# Altium schematic symbol library kmilo17pet-dsPIC33F.SchLib: 775 symbols (part 13 of 44)
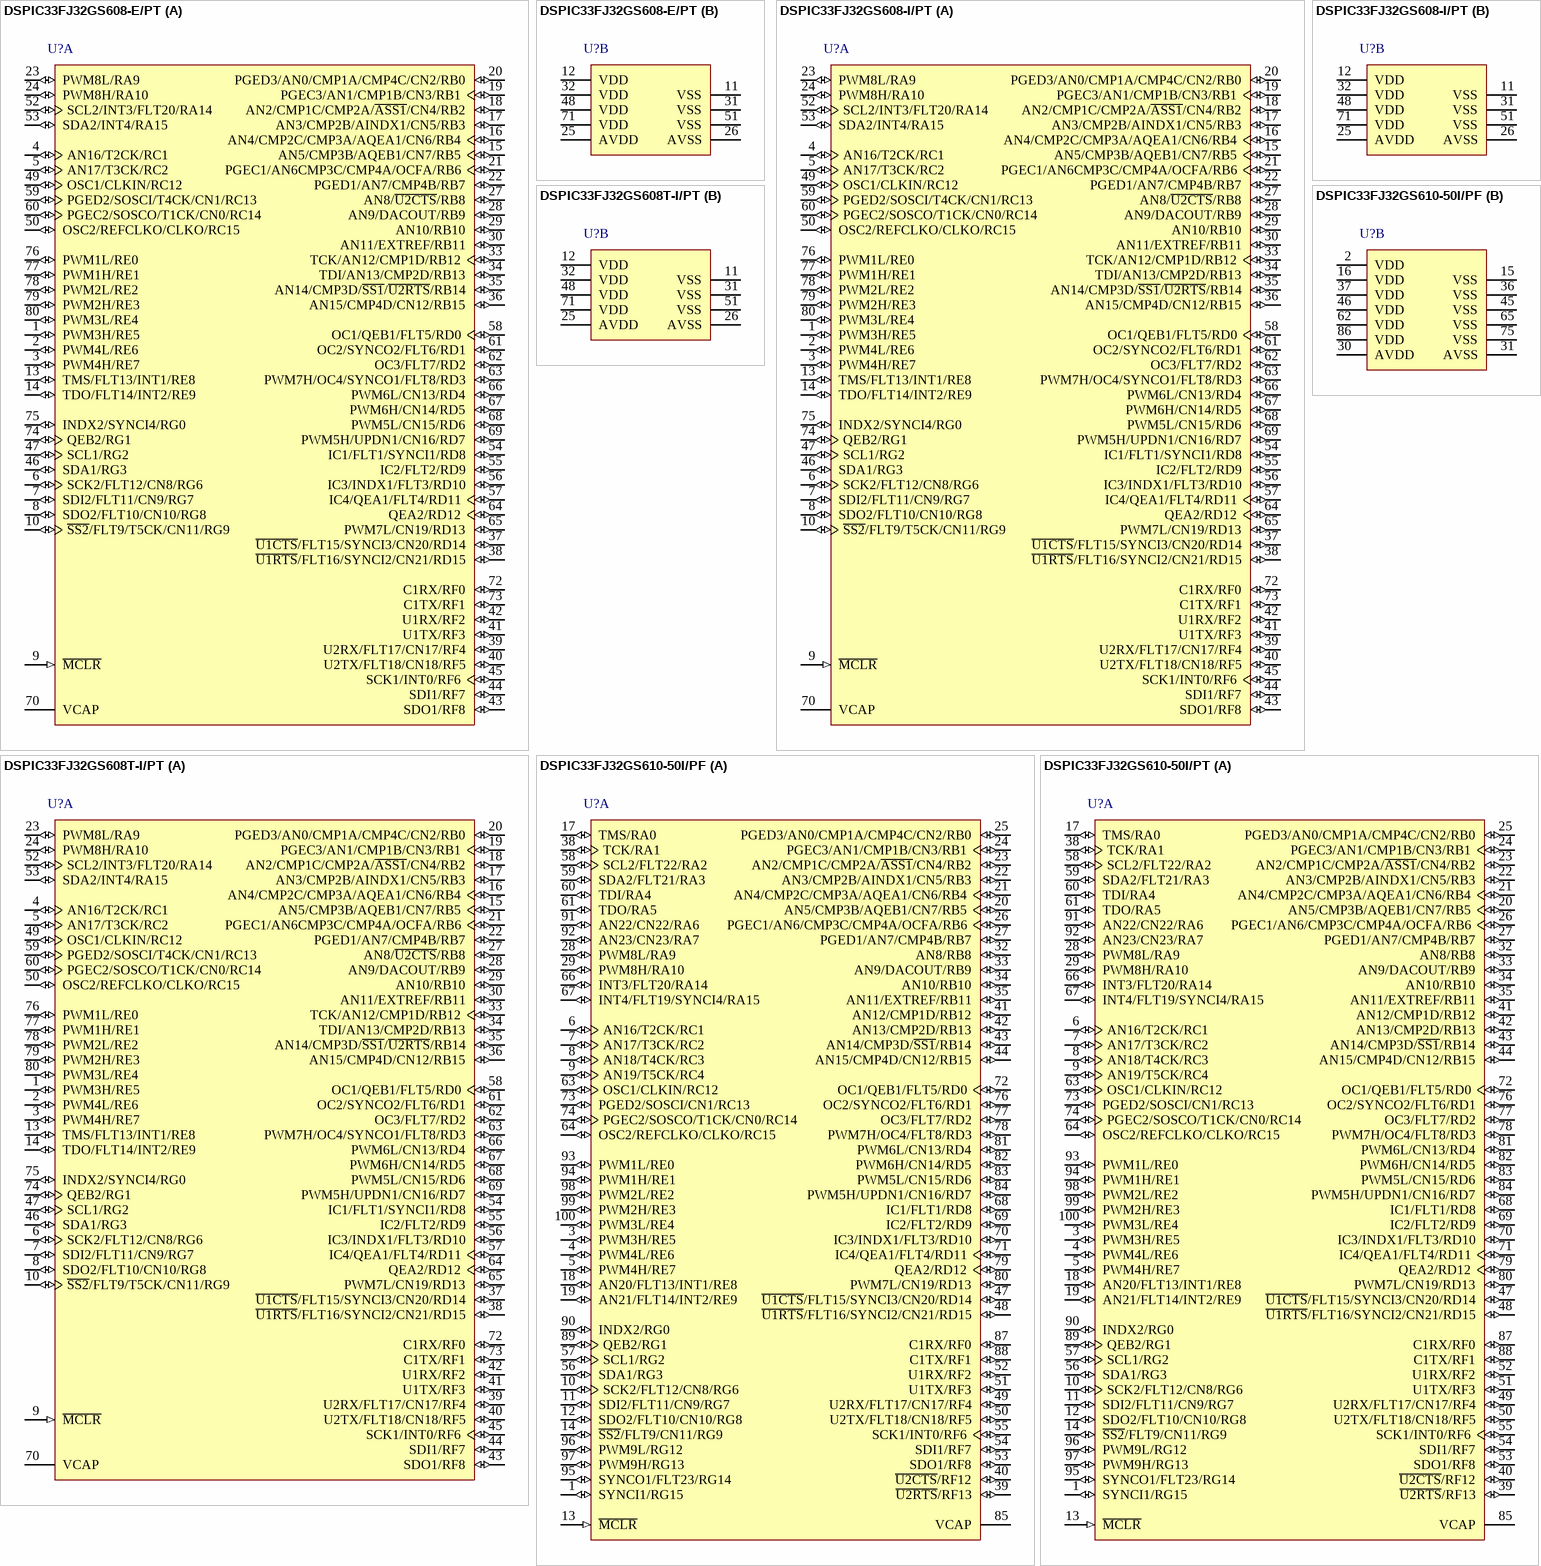
[diagram p170: symbols DSPIC33FJ32GS608-E/PT to DSPIC33FJ32GS610-50I/PT]

## DSPIC33FJ32GS608-I/PT
designator U?
16-Bit Digital Signal Controller with High-Speed PWM, ADC and Comparators, 50 MIPS, 69 I/O, GPIO, -40 to 85 degC, 80-pin TQFP (PT80), Tray; Manufacturer: Microchip; PartNumber: DSPIC33FJ32GS608-I/PT; DatasheetVersion: Rev. E; PackageVersion: C04-092B; PackageReference: TQFP-PT80; PackageDescription: 80-Lead Plastic Thin Quad FlatPack, 12 x 12 mm Body, 0.5 mm Pitch; Supplier 1: Digi-Key; Supplier Part Number 1: DSPIC33FJ32GS608-I/PT-ND; Supplier 2: Mouser; Supplier Part Number 2: 579-33FJ32GS608-I/PT; Mounting Technology: Surface Mount; ComponentLink1Description: Manufacturer URL; ComponentLink1URL: http://www.microchip.com; ComponentLink2Description: Datasheet; ComponentLink2URL: http://ww1.microchip.com/downloads/en/DeviceDoc/70591e.pdf; ComponentLink3Description: Package Specification; ComponentLink3URL: http://www.microchip.com/stellent/groups/techpub_sg/documents/packagingspec/en012702.pdf; ComponentLink4Description: Product URL; ComponentLink4URL: http://www.microchip.com/dsPIC33FJ32GS608
footprint MCHP-TQFP-PT80_N (QFN, 80-Leads, Body 12x12mm, Pitch 0.5mm, IPC Medium Density)
footprint MCHP-TQFP-PT80_L (QFN, 80-Leads, Body 12x12mm, Pitch 0.5mm, IPC High Density)
footprint MCHP-TQFP-PT80_M (QFN, 80-Leads, Body 12x12mm, Pitch 0.5mm, IPC Low Density)
part A pins: 1 PWM3H/RE5 (io), 2 PWM4L/RE6 (io), 3 PWM4H/RE7 (io), 4 AN16/T2CK/RC1 (io), 5 AN17/T3CK/RC2 (io), 6 SCK2/FLT12/CN8/RG6 (io), 7 SDI2/FLT11/CN9/RG7 (io), 8 SDO2/FLT10/CN10/RG8 (io), 9 ~{MCLR} (in) "Master Clear (Reset) input. This pin is an active-low Reset to the device.", 10 ~{SS2}/FLT9/T5CK/CN11/RG9 (io), 13 TMS/FLT13/INT1/RE8 (io), 14 TDO/FLT14/INT2/RE9 (io), 15 AN5/CMP3B/AQEB1/CN7/RB5 (io), 16 AN4/CMP2C/CMP3A/AQEA1/CN6/RB4 (io), 17 AN3/CMP2B/AINDX1/CN5/RB3 (io), 18 AN2/CMP1C/CMP2A/~{ASS1}/CN4/RB2 (io), 19 PGEC3/AN1/CMP1B/CN3/RB1 (io), 20 PGED3/AN0/CMP1A/CMP4C/CN2/RB0 (io), 21 PGEC1/AN6CMP3C/CMP4A/OCFA/RB6 (io), 22 PGED1/AN7/CMP4B/RB7 (io), 23 PWM8L/RA9 (io), 24 PWM8H/RA10 (io), 27 AN8/~{U2CTS}/RB8 (io), 28 AN9/DACOUT/RB9 (io), 29 AN10/RB10 (io), 30 AN11/EXTREF/RB11 (io), 33 TCK/AN12/CMP1D/RB12 (io), 34 TDI/AN13/CMP2D/RB13 (io), 35 AN14/CMP3D/~{SS1}/~{U2RTS}/RB14 (io), 36 AN15/CMP4D/CN12/RB15 (io), 37 ~{U1CTS}/FLT15/SYNCI3/CN20/RD14 (io), 38 ~{U1RTS}/FLT16/SYNCI2/CN21/RD15 (io), 39 U2RX/FLT17/CN17/RF4 (io), 40 U2TX/FLT18/CN18/RF5 (io), 41 U1TX/RF3 (io), 42 U1RX/RF2 (io), 43 SDO1/RF8 (io), 44 SDI1/RF7 (io), 45 SCK1/INT0/RF6 (io), 46 SDA1/RG3 (io), 47 SCL1/RG2 (io), 49 OSC1/CLKIN/RC12 (io), 50 OSC2/REFCLKO/CLKO/RC15 (io), 52 SCL2/INT3/FLT20/RA14 (io), 53 SDA2/INT4/RA15 (io), 54 IC1/FLT1/SYNCI1/RD8 (io), 55 IC2/FLT2/RD9 (io), 56 IC3/INDX1/FLT3/RD10 (io), 57 IC4/QEA1/FLT4/RD11 (io), 58 OC1/QEB1/FLT5/RD0 (io), 59 PGED2/SOSCI/T4CK/CN1/RC13 (io), 60 PGEC2/SOSCO/T1CK/CN0/RC14 (io), 61 OC2/SYNCO2/FLT6/RD1 (io), 62 OC3/FLT7/RD2 (io), 63 PWM7H/OC4/SYNCO1/FLT8/RD3 (io), 64 QEA2/RD12 (io), 65 PWM7L/CN19/RD13 (io), 66 PWM6L/CN13/RD4 (io), 67 PWM6H/CN14/RD5 (io), 68 PWM5L/CN15/RD6 (io), 69 PWM5H/UPDN1/CN16/RD7 (io), 70 VCAP "CPU logic filter capacitor connection.", 72 C1RX/RF0 (io), 73 C1TX/RF1 (io), 74 QEB2/RG1 (io), 75 INDX2/SYNCI4/RG0 (io), 76 PWM1L/RE0 (io), 77 PWM1H/RE1 (io), 78 PWM2L/RE2 (io), 79 PWM2H/RE3 (io), 80 PWM3L/RE4 (io)
part B pins: 11 VSS (power) "Ground reference for logic and I/O pins.", 12 VDD (power) "Positive supply for peripheral logic and I/O pins.", 25 AVDD (power) "Positive supply for analog modules. This pin must be connected at all times.", 26 AVSS (power) "Ground reference for analog modules.", 31 VSS (power) "Ground reference for logic and I/O pins.", 32 VDD (power) "Positive supply for peripheral logic and I/O pins.", 48 VDD (power) "Positive supply for peripheral logic and I/O pins.", 51 VSS (power) "Ground reference for logic and I/O pins.", 71 VDD (power) "Positive supply for peripheral logic and I/O pins."

## DSPIC33FJ32GS608T-I/PT
designator U?
16-Bit Digital Signal Controller with High-Speed PWM, ADC and Comparators, 50 MIPS, 69 I/O, GPIO, -40 to 85 degC, 80-pin TQFP (PT80), Tape and Reel; Manufacturer: Microchip; PartNumber: DSPIC33FJ32GS608T-I/PT; DatasheetVersion: Rev. E; PackageVersion: C04-092B; PackageReference: TQFP-PT80; PackageDescription: 80-Lead Plastic Thin Quad FlatPack, 12 x 12 mm Body, 0.5 mm Pitch; Supplier 1: Digi-Key; Supplier Part Number 1: DSPIC33FJ32GS608T-I/PT-ND; Supplier 2: Mouser; Supplier Part Number 2: 579-33FJ32GS608TI/PT; Mounting Technology: Surface Mount; ComponentLink1Description: Manufacturer URL; ComponentLink1URL: http://www.microchip.com; ComponentLink2Description: Datasheet; ComponentLink2URL: http://ww1.microchip.com/downloads/en/DeviceDoc/70591e.pdf; ComponentLink3Description: Package Specification; ComponentLink3URL: http://www.microchip.com/stellent/groups/techpub_sg/documents/packagingspec/en012702.pdf; ComponentLink4Description: Product URL; ComponentLink4URL: http://www.microchip.com/dsPIC33FJ32GS608
footprint MCHP-TQFP-PT80_N (QFN, 80-Leads, Body 12x12mm, Pitch 0.5mm, IPC Medium Density)
footprint MCHP-TQFP-PT80_L (QFN, 80-Leads, Body 12x12mm, Pitch 0.5mm, IPC High Density)
footprint MCHP-TQFP-PT80_M (QFN, 80-Leads, Body 12x12mm, Pitch 0.5mm, IPC Low Density)
part A pins: 1 PWM3H/RE5 (io), 2 PWM4L/RE6 (io), 3 PWM4H/RE7 (io), 4 AN16/T2CK/RC1 (io), 5 AN17/T3CK/RC2 (io), 6 SCK2/FLT12/CN8/RG6 (io), 7 SDI2/FLT11/CN9/RG7 (io), 8 SDO2/FLT10/CN10/RG8 (io), 9 ~{MCLR} (in) "Master Clear (Reset) input. This pin is an active-low Reset to the device.", 10 ~{SS2}/FLT9/T5CK/CN11/RG9 (io), 13 TMS/FLT13/INT1/RE8 (io), 14 TDO/FLT14/INT2/RE9 (io), 15 AN5/CMP3B/AQEB1/CN7/RB5 (io), 16 AN4/CMP2C/CMP3A/AQEA1/CN6/RB4 (io), 17 AN3/CMP2B/AINDX1/CN5/RB3 (io), 18 AN2/CMP1C/CMP2A/~{ASS1}/CN4/RB2 (io), 19 PGEC3/AN1/CMP1B/CN3/RB1 (io), 20 PGED3/AN0/CMP1A/CMP4C/CN2/RB0 (io), 21 PGEC1/AN6CMP3C/CMP4A/OCFA/RB6 (io), 22 PGED1/AN7/CMP4B/RB7 (io), 23 PWM8L/RA9 (io), 24 PWM8H/RA10 (io), 27 AN8/~{U2CTS}/RB8 (io), 28 AN9/DACOUT/RB9 (io), 29 AN10/RB10 (io), 30 AN11/EXTREF/RB11 (io), 33 TCK/AN12/CMP1D/RB12 (io), 34 TDI/AN13/CMP2D/RB13 (io), 35 AN14/CMP3D/~{SS1}/~{U2RTS}/RB14 (io), 36 AN15/CMP4D/CN12/RB15 (io), 37 ~{U1CTS}/FLT15/SYNCI3/CN20/RD14 (io), 38 ~{U1RTS}/FLT16/SYNCI2/CN21/RD15 (io), 39 U2RX/FLT17/CN17/RF4 (io), 40 U2TX/FLT18/CN18/RF5 (io), 41 U1TX/RF3 (io), 42 U1RX/RF2 (io), 43 SDO1/RF8 (io), 44 SDI1/RF7 (io), 45 SCK1/INT0/RF6 (io), 46 SDA1/RG3 (io), 47 SCL1/RG2 (io), 49 OSC1/CLKIN/RC12 (io), 50 OSC2/REFCLKO/CLKO/RC15 (io), 52 SCL2/INT3/FLT20/RA14 (io), 53 SDA2/INT4/RA15 (io), 54 IC1/FLT1/SYNCI1/RD8 (io), 55 IC2/FLT2/RD9 (io), 56 IC3/INDX1/FLT3/RD10 (io), 57 IC4/QEA1/FLT4/RD11 (io), 58 OC1/QEB1/FLT5/RD0 (io), 59 PGED2/SOSCI/T4CK/CN1/RC13 (io), 60 PGEC2/SOSCO/T1CK/CN0/RC14 (io), 61 OC2/SYNCO2/FLT6/RD1 (io), 62 OC3/FLT7/RD2 (io), 63 PWM7H/OC4/SYNCO1/FLT8/RD3 (io), 64 QEA2/RD12 (io), 65 PWM7L/CN19/RD13 (io), 66 PWM6L/CN13/RD4 (io), 67 PWM6H/CN14/RD5 (io), 68 PWM5L/CN15/RD6 (io), 69 PWM5H/UPDN1/CN16/RD7 (io), 70 VCAP "CPU logic filter capacitor connection.", 72 C1RX/RF0 (io), 73 C1TX/RF1 (io), 74 QEB2/RG1 (io), 75 INDX2/SYNCI4/RG0 (io), 76 PWM1L/RE0 (io), 77 PWM1H/RE1 (io), 78 PWM2L/RE2 (io), 79 PWM2H/RE3 (io), 80 PWM3L/RE4 (io)
part B pins: 11 VSS (power) "Ground reference for logic and I/O pins.", 12 VDD (power) "Positive supply for peripheral logic and I/O pins.", 25 AVDD (power) "Positive supply for analog modules. This pin must be connected at all times.", 26 AVSS (power) "Ground reference for analog modules.", 31 VSS (power) "Ground reference for logic and I/O pins.", 32 VDD (power) "Positive supply for peripheral logic and I/O pins.", 48 VDD (power) "Positive supply for peripheral logic and I/O pins.", 51 VSS (power) "Ground reference for logic and I/O pins.", 71 VDD (power) "Positive supply for peripheral logic and I/O pins."

## DSPIC33FJ32GS610-50I/PF
designator U?
16-Bit Digital Signal Controller with High-Speed PWM, ADC and Comparators, 50 MIPS, 85 I/O, GPIO, -40 to 85 degC, 100-pin TQFP (PF100), Tray; Manufacturer: Microchip; PartNumber: DSPIC33FJ32GS610-50I/PF; DatasheetVersion: Rev. E; PackageVersion: C04-110B; PackageReference: TQFP-PF100; PackageDescription: 100-Lead Thin Plastic Quad Flat Pack, 14 x 14 mm Body, 0.5 mm Pitch; Supplier 1: Digi-Key; Supplier Part Number 1: DSPIC33FJ32GS610-50I/PF-ND; Supplier 2: Mouser; Supplier Part Number 2: 579-33F32GS61050IPF; Mounting Technology: Surface Mount; ComponentLink1Description: Manufacturer URL; ComponentLink1URL: http://www.microchip.com; ComponentLink2Description: Datasheet; ComponentLink2URL: http://ww1.microchip.com/downloads/en/DeviceDoc/70591e.pdf; ComponentLink3Description: Package Specification; ComponentLink3URL: http://www.microchip.com/stellent/groups/techpub_sg/documents/packagingspec/en012702.pdf; ComponentLink4Description: Product URL; ComponentLink4URL: http://www.microchip.com/dsPIC33FJ32GS610
footprint MCHP-TQFP-PF100_N (QFP, 100-Leads, Body 14x14mm, Pitch 0.5mm, IPC Medium Density)
footprint MCHP-TQFP-PF100_L (QFP, 100-Leads, Body 14x14mm, Pitch 0.5mm, IPC High Density)
footprint MCHP-TQFP-PF100_M (QFP, 100-Leads, Body 14x14mm, Pitch 0.5mm, IPC Low Density)
part A pins: 1 SYNCI1/RG15 (io), 3 PWM3H/RE5 (io), 4 PWM4L/RE6 (io), 5 PWM4H/RE7 (io), 6 AN16/T2CK/RC1 (io), 7 AN17/T3CK/RC2 (io), 8 AN18/T4CK/RC3 (io), 9 AN19/T5CK/RC4 (io), 10 SCK2/FLT12/CN8/RG6 (io), 11 SDI2/FLT11/CN9/RG7 (io), 12 SDO2/FLT10/CN10/RG8 (io), 13 ~{MCLR} (in) "Master Clear (Reset) input. This pin is an active-low Reset to the device.", 14 ~{SS2}/FLT9/CN11/RG9 (io), 17 TMS/RA0 (io), 18 AN20/FLT13/INT1/RE8 (io), 19 AN21/FLT14/INT2/RE9 (io), 20 AN5/CMP3B/AQEB1/CN7/RB5 (io), 21 AN4/CMP2C/CMP3A/AQEA1/CN6/RB4 (io), 22 AN3/CMP2B/AINDX1/CN5/RB3 (io), 23 AN2/CMP1C/CMP2A/~{ASS1}/CN4/RB2 (io), 24 PGEC3/AN1/CMP1B/CN3/RB1 (io), 25 PGED3/AN0/CMP1A/CMP4C/CN2/RB0 (io), 26 PGEC1/AN6/CMP3C/CMP4A/OCFA/RB6 (io), 27 PGED1/AN7/CMP4B/RB7 (io), 28 PWM8L/RA9 (io), 29 PWM8H/RA10 (io), 32 AN8/RB8 (io), 33 AN9/DACOUT/RB9 (io), 34 AN10/RB10 (io), 35 AN11/EXTREF/RB11 (io), 38 TCK/RA1 (io), 39 ~{U2RTS}/RF13 (io), 40 ~{U2CTS}/RF12 (io), 41 AN12/CMP1D/RB12 (io), 42 AN13/CMP2D/RB13 (io), 43 AN14/CMP3D/~{SS1}/RB14 (io), 44 AN15/CMP4D/CN12/RB15 (io), 47 ~{U1CTS}/FLT15/SYNCI3/CN20/RD14 (io), 48 ~{U1RTS}/FLT16/SYNCI2/CN21/RD15 (io), 49 U2RX/FLT17/CN17/RF4 (io), 50 U2TX/FLT18/CN18/RF5 (io), 51 U1TX/RF3 (io), 52 U1RX/RF2 (io), 53 SDO1/RF8 (io), 54 SDI1/RF7 (io), 55 SCK1/INT0/RF6 (io), 56 SDA1/RG3 (io), 57 SCL1/RG2 (io), 58 SCL2/FLT22/RA2 (io), 59 SDA2/FLT21/RA3 (io), 60 TDI/RA4 (io), 61 TDO/RA5 (io), 63 OSC1/CLKIN/RC12 (io), 64 OSC2/REFCLKO/CLKO/RC15 (io), 66 INT3/FLT20/RA14 (io), 67 INT4/FLT19/SYNCI4/RA15 (io), 68 IC1/FLT1/RD8 (io), 69 IC2/FLT2/RD9 (io), 70 IC3/INDX1/FLT3/RD10 (io), 71 IC4/QEA1/FLT4/RD11 (io), 72 OC1/QEB1/FLT5/RD0 (io), 73 PGED2/SOSCI/CN1/RC13 (io), 74 PGEC2/SOSCO/T1CK/CN0/RC14 (io), 76 OC2/SYNCO2/FLT6/RD1 (io), 77 OC3/FLT7/RD2 (io), 78 PWM7H/OC4/FLT8/RD3 (io), 79 QEA2/RD12 (io), 80 PWM7L/CN19/RD13 (io), 81 PWM6L/CN13/RD4 (io), 82 PWM6H/CN14/RD5 (io), 83 PWM5L/CN15/RD6 (io), 84 PWM5H/UPDN1/CN16/RD7 (io), 85 VCAP "CPU logic filter capacitor connection.", 87 C1RX/RF0 (io), 88 C1TX/RF1 (io), 89 QEB2/RG1 (io), 90 INDX2/RG0 (io), 91 AN22/CN22/RA6 (io), 92 AN23/CN23/RA7 (io), 93 PWM1L/RE0 (io), 94 PWM1H/RE1 (io), 95 SYNCO1/FLT23/RG14 (io), 96 PWM9L/RG12 (io), 97 PWM9H/RG13 (io), 98 PWM2L/RE2 (io), 99 PWM2H/RE3 (io), 100 PWM3L/RE4 (io)
part B pins: 2 VDD (power) "Positive supply for peripheral logic and I/O pins.", 15 VSS (power) "Ground reference for logic and I/O pins.", 16 VDD (power) "Positive supply for peripheral logic and I/O pins.", 30 AVDD (power) "Positive supply for analog modules. This pin must be connected at all times.", 31 AVSS "Ground reference for analog modules.", 36 VSS "Ground reference for logic and I/O pins.", 37 VDD (power) "Positive supply for peripheral logic and I/O pins.", 45 VSS "Ground reference for logic and I/O pins.", 46 VDD (power) "Positive supply for peripheral logic and I/O pins.", 62 VDD (power) "Positive supply for peripheral logic and I/O pins.", 65 VSS "Ground reference for logic and I/O pins.", 75 VSS "Ground reference for logic and I/O pins.", 86 VDD (power) "Positive supply for peripheral logic and I/O pins."

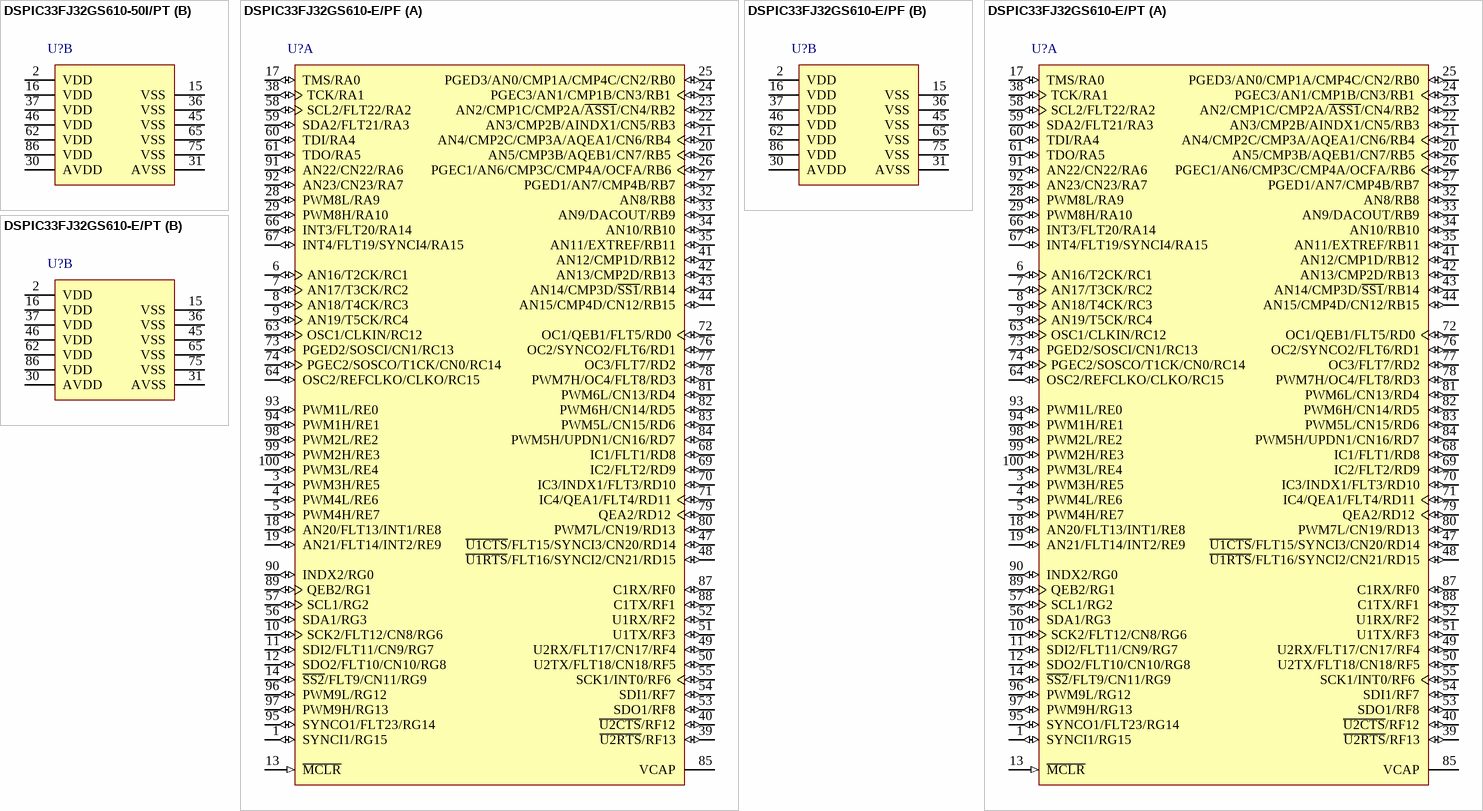
[diagram p36: symbols DSPIC33FJ32GS610-50I/PT to DSPIC33FJ32GS610-E/PT]

## DSPIC33FJ32GS610-50I/PT
designator U?
16-Bit Digital Signal Controller with High-Speed PWM, ADC and Comparators, 50 MIPS, 85 I/O, GPIO, -40 to 85 degC, 100-pin TQFP (PT100), Tray; Manufacturer: Microchip; PartNumber: DSPIC33FJ32GS610-50I/PT; DatasheetVersion: Rev. E; PackageVersion: C04-100B; PackageReference: TQFP-PT100; PackageDescription: 100-Lead Plastic Thin Quad Flatpack, 12 x 12 mm Body, 0.4 mm Pitch; Supplier 1: Digi-Key; Supplier Part Number 1: DSPIC33FJ32GS610-50I/PT-ND; Supplier 2: Mouser; Supplier Part Number 2: 579-33F32GS61050IPT; Mounting Technology: Surface Mount; ComponentLink1Description: Manufacturer URL; ComponentLink1URL: http://www.microchip.com; ComponentLink2Description: Datasheet; ComponentLink2URL: http://ww1.microchip.com/downloads/en/DeviceDoc/70591e.pdf; ComponentLink3Description: Package Specification; ComponentLink3URL: http://www.microchip.com/stellent/groups/techpub_sg/documents/packagingspec/en012702.pdf; ComponentLink4Description: Product URL; ComponentLink4URL: http://www.microchip.com/dsPIC33FJ32GS610
footprint MCHP-TQFP-PT100_N (QFP, 100-Leads, Body 12x12mm, Pitch 0.4mm, IPC Medium Density)
footprint MCHP-TQFP-PT100_L (QFP, 100-Leads, Body 12x12mm, Pitch 0.4mm, IPC High Density)
footprint MCHP-TQFP-PT100_M (TQFP, 100-Leads, Body 12x12mm, Pitch 0.4mm, IPC Low Density)
part A pins: 1 SYNCI1/RG15 (io), 3 PWM3H/RE5 (io), 4 PWM4L/RE6 (io), 5 PWM4H/RE7 (io), 6 AN16/T2CK/RC1 (io), 7 AN17/T3CK/RC2 (io), 8 AN18/T4CK/RC3 (io), 9 AN19/T5CK/RC4 (io), 10 SCK2/FLT12/CN8/RG6 (io), 11 SDI2/FLT11/CN9/RG7 (io), 12 SDO2/FLT10/CN10/RG8 (io), 13 ~{MCLR} (in) "Master Clear (Reset) input. This pin is an active-low Reset to the device.", 14 ~{SS2}/FLT9/CN11/RG9 (io), 17 TMS/RA0 (io), 18 AN20/FLT13/INT1/RE8 (io), 19 AN21/FLT14/INT2/RE9 (io), 20 AN5/CMP3B/AQEB1/CN7/RB5 (io), 21 AN4/CMP2C/CMP3A/AQEA1/CN6/RB4 (io), 22 AN3/CMP2B/AINDX1/CN5/RB3 (io), 23 AN2/CMP1C/CMP2A/~{ASS1}/CN4/RB2 (io), 24 PGEC3/AN1/CMP1B/CN3/RB1 (io), 25 PGED3/AN0/CMP1A/CMP4C/CN2/RB0 (io), 26 PGEC1/AN6/CMP3C/CMP4A/OCFA/RB6 (io), 27 PGED1/AN7/CMP4B/RB7 (io), 28 PWM8L/RA9 (io), 29 PWM8H/RA10 (io), 32 AN8/RB8 (io), 33 AN9/DACOUT/RB9 (io), 34 AN10/RB10 (io), 35 AN11/EXTREF/RB11 (io), 38 TCK/RA1 (io), 39 ~{U2RTS}/RF13 (io), 40 ~{U2CTS}/RF12 (io), 41 AN12/CMP1D/RB12 (io), 42 AN13/CMP2D/RB13 (io), 43 AN14/CMP3D/~{SS1}/RB14 (io), 44 AN15/CMP4D/CN12/RB15 (io), 47 ~{U1CTS}/FLT15/SYNCI3/CN20/RD14 (io), 48 ~{U1RTS}/FLT16/SYNCI2/CN21/RD15 (io), 49 U2RX/FLT17/CN17/RF4 (io), 50 U2TX/FLT18/CN18/RF5 (io), 51 U1TX/RF3 (io), 52 U1RX/RF2 (io), 53 SDO1/RF8 (io), 54 SDI1/RF7 (io), 55 SCK1/INT0/RF6 (io), 56 SDA1/RG3 (io), 57 SCL1/RG2 (io), 58 SCL2/FLT22/RA2 (io), 59 SDA2/FLT21/RA3 (io), 60 TDI/RA4 (io), 61 TDO/RA5 (io), 63 OSC1/CLKIN/RC12 (io), 64 OSC2/REFCLKO/CLKO/RC15 (io), 66 INT3/FLT20/RA14 (io), 67 INT4/FLT19/SYNCI4/RA15 (io), 68 IC1/FLT1/RD8 (io), 69 IC2/FLT2/RD9 (io), 70 IC3/INDX1/FLT3/RD10 (io), 71 IC4/QEA1/FLT4/RD11 (io), 72 OC1/QEB1/FLT5/RD0 (io), 73 PGED2/SOSCI/CN1/RC13 (io), 74 PGEC2/SOSCO/T1CK/CN0/RC14 (io), 76 OC2/SYNCO2/FLT6/RD1 (io), 77 OC3/FLT7/RD2 (io), 78 PWM7H/OC4/FLT8/RD3 (io), 79 QEA2/RD12 (io), 80 PWM7L/CN19/RD13 (io), 81 PWM6L/CN13/RD4 (io), 82 PWM6H/CN14/RD5 (io), 83 PWM5L/CN15/RD6 (io), 84 PWM5H/UPDN1/CN16/RD7 (io), 85 VCAP "CPU logic filter capacitor connection.", 87 C1RX/RF0 (io), 88 C1TX/RF1 (io), 89 QEB2/RG1 (io), 90 INDX2/RG0 (io), 91 AN22/CN22/RA6 (io), 92 AN23/CN23/RA7 (io), 93 PWM1L/RE0 (io), 94 PWM1H/RE1 (io), 95 SYNCO1/FLT23/RG14 (io), 96 PWM9L/RG12 (io), 97 PWM9H/RG13 (io), 98 PWM2L/RE2 (io), 99 PWM2H/RE3 (io), 100 PWM3L/RE4 (io)
part B pins: 2 VDD (power) "Positive supply for peripheral logic and I/O pins.", 15 VSS (power) "Ground reference for logic and I/O pins.", 16 VDD (power) "Positive supply for peripheral logic and I/O pins.", 30 AVDD (power) "Positive supply for analog modules. This pin must be connected at all times.", 31 AVSS "Ground reference for analog modules.", 36 VSS "Ground reference for logic and I/O pins.", 37 VDD (power) "Positive supply for peripheral logic and I/O pins.", 45 VSS "Ground reference for logic and I/O pins.", 46 VDD (power) "Positive supply for peripheral logic and I/O pins.", 62 VDD (power) "Positive supply for peripheral logic and I/O pins.", 65 VSS "Ground reference for logic and I/O pins.", 75 VSS "Ground reference for logic and I/O pins.", 86 VDD (power) "Positive supply for peripheral logic and I/O pins."

## DSPIC33FJ32GS610-E/PF
designator U?
16-Bit Digital Signal Controller with High-Speed PWM, ADC and Comparators, 50 MIPS, 85 I/O, GPIO, -40 to 125 degC, 100-pin TQFP (PF100), Tray; Manufacturer: Microchip; PartNumber: DSPIC33FJ32GS610-E/PF; DatasheetVersion: Rev. E; PackageVersion: C04-110B; PackageReference: TQFP-PF100; PackageDescription: 100-Lead Thin Plastic Quad Flat Pack, 14 x 14 mm Body, 0.5 mm Pitch; Supplier 1: Digi-Key; Supplier Part Number 1: DSPIC33FJ32GS610-E/PF-ND; Supplier 2: Mouser; Supplier Part Number 2: 579-33FJ32GS610-E/PF; Mounting Technology: Surface Mount; ComponentLink1Description: Manufacturer URL; ComponentLink1URL: http://www.microchip.com; ComponentLink2Description: Datasheet; ComponentLink2URL: http://ww1.microchip.com/downloads/en/DeviceDoc/70591e.pdf; ComponentLink3Description: Package Specification; ComponentLink3URL: http://www.microchip.com/stellent/groups/techpub_sg/documents/packagingspec/en012702.pdf; ComponentLink4Description: Product URL; ComponentLink4URL: http://www.microchip.com/dsPIC33FJ32GS610
footprint MCHP-TQFP-PF100_N (QFP, 100-Leads, Body 14x14mm, Pitch 0.5mm, IPC Medium Density)
footprint MCHP-TQFP-PF100_L (QFP, 100-Leads, Body 14x14mm, Pitch 0.5mm, IPC High Density)
footprint MCHP-TQFP-PF100_M (QFP, 100-Leads, Body 14x14mm, Pitch 0.5mm, IPC Low Density)
part A pins: 1 SYNCI1/RG15 (io), 3 PWM3H/RE5 (io), 4 PWM4L/RE6 (io), 5 PWM4H/RE7 (io), 6 AN16/T2CK/RC1 (io), 7 AN17/T3CK/RC2 (io), 8 AN18/T4CK/RC3 (io), 9 AN19/T5CK/RC4 (io), 10 SCK2/FLT12/CN8/RG6 (io), 11 SDI2/FLT11/CN9/RG7 (io), 12 SDO2/FLT10/CN10/RG8 (io), 13 ~{MCLR} (in) "Master Clear (Reset) input. This pin is an active-low Reset to the device.", 14 ~{SS2}/FLT9/CN11/RG9 (io), 17 TMS/RA0 (io), 18 AN20/FLT13/INT1/RE8 (io), 19 AN21/FLT14/INT2/RE9 (io), 20 AN5/CMP3B/AQEB1/CN7/RB5 (io), 21 AN4/CMP2C/CMP3A/AQEA1/CN6/RB4 (io), 22 AN3/CMP2B/AINDX1/CN5/RB3 (io), 23 AN2/CMP1C/CMP2A/~{ASS1}/CN4/RB2 (io), 24 PGEC3/AN1/CMP1B/CN3/RB1 (io), 25 PGED3/AN0/CMP1A/CMP4C/CN2/RB0 (io), 26 PGEC1/AN6/CMP3C/CMP4A/OCFA/RB6 (io), 27 PGED1/AN7/CMP4B/RB7 (io), 28 PWM8L/RA9 (io), 29 PWM8H/RA10 (io), 32 AN8/RB8 (io), 33 AN9/DACOUT/RB9 (io), 34 AN10/RB10 (io), 35 AN11/EXTREF/RB11 (io), 38 TCK/RA1 (io), 39 ~{U2RTS}/RF13 (io), 40 ~{U2CTS}/RF12 (io), 41 AN12/CMP1D/RB12 (io), 42 AN13/CMP2D/RB13 (io), 43 AN14/CMP3D/~{SS1}/RB14 (io), 44 AN15/CMP4D/CN12/RB15 (io), 47 ~{U1CTS}/FLT15/SYNCI3/CN20/RD14 (io), 48 ~{U1RTS}/FLT16/SYNCI2/CN21/RD15 (io), 49 U2RX/FLT17/CN17/RF4 (io), 50 U2TX/FLT18/CN18/RF5 (io), 51 U1TX/RF3 (io), 52 U1RX/RF2 (io), 53 SDO1/RF8 (io), 54 SDI1/RF7 (io), 55 SCK1/INT0/RF6 (io), 56 SDA1/RG3 (io), 57 SCL1/RG2 (io), 58 SCL2/FLT22/RA2 (io), 59 SDA2/FLT21/RA3 (io), 60 TDI/RA4 (io), 61 TDO/RA5 (io), 63 OSC1/CLKIN/RC12 (io), 64 OSC2/REFCLKO/CLKO/RC15 (io), 66 INT3/FLT20/RA14 (io), 67 INT4/FLT19/SYNCI4/RA15 (io), 68 IC1/FLT1/RD8 (io), 69 IC2/FLT2/RD9 (io), 70 IC3/INDX1/FLT3/RD10 (io), 71 IC4/QEA1/FLT4/RD11 (io), 72 OC1/QEB1/FLT5/RD0 (io), 73 PGED2/SOSCI/CN1/RC13 (io), 74 PGEC2/SOSCO/T1CK/CN0/RC14 (io), 76 OC2/SYNCO2/FLT6/RD1 (io), 77 OC3/FLT7/RD2 (io), 78 PWM7H/OC4/FLT8/RD3 (io), 79 QEA2/RD12 (io), 80 PWM7L/CN19/RD13 (io), 81 PWM6L/CN13/RD4 (io), 82 PWM6H/CN14/RD5 (io), 83 PWM5L/CN15/RD6 (io), 84 PWM5H/UPDN1/CN16/RD7 (io), 85 VCAP "CPU logic filter capacitor connection.", 87 C1RX/RF0 (io), 88 C1TX/RF1 (io), 89 QEB2/RG1 (io), 90 INDX2/RG0 (io), 91 AN22/CN22/RA6 (io), 92 AN23/CN23/RA7 (io), 93 PWM1L/RE0 (io), 94 PWM1H/RE1 (io), 95 SYNCO1/FLT23/RG14 (io), 96 PWM9L/RG12 (io), 97 PWM9H/RG13 (io), 98 PWM2L/RE2 (io), 99 PWM2H/RE3 (io), 100 PWM3L/RE4 (io)
part B pins: 2 VDD (power) "Positive supply for peripheral logic and I/O pins.", 15 VSS (power) "Ground reference for logic and I/O pins.", 16 VDD (power) "Positive supply for peripheral logic and I/O pins.", 30 AVDD (power) "Positive supply for analog modules. This pin must be connected at all times.", 31 AVSS "Ground reference for analog modules.", 36 VSS "Ground reference for logic and I/O pins.", 37 VDD (power) "Positive supply for peripheral logic and I/O pins.", 45 VSS "Ground reference for logic and I/O pins.", 46 VDD (power) "Positive supply for peripheral logic and I/O pins.", 62 VDD (power) "Positive supply for peripheral logic and I/O pins.", 65 VSS "Ground reference for logic and I/O pins.", 75 VSS "Ground reference for logic and I/O pins.", 86 VDD (power) "Positive supply for peripheral logic and I/O pins."

## DSPIC33FJ32GS610-E/PT
designator U?
16-Bit Digital Signal Controller with High-Speed PWM, ADC and Comparators, 50 MIPS, 85 I/O, GPIO, -40 to 125 degC, 100-pin TQFP (PT100), Tray; Manufacturer: Microchip; PartNumber: DSPIC33FJ32GS610-E/PT; DatasheetVersion: Rev. E; PackageVersion: C04-100B; PackageReference: TQFP-PT100; PackageDescription: 100-Lead Plastic Thin Quad Flatpack, 12 x 12 mm Body, 0.4 mm Pitch; Supplier 1: Digi-Key; Supplier Part Number 1: DSPIC33FJ32GS610-E/PT-ND; Supplier 2: Mouser; Supplier Part Number 2: 579-33FJ32GS610-E/PT; Mounting Technology: Surface Mount; ComponentLink1Description: Manufacturer URL; ComponentLink1URL: http://www.microchip.com; ComponentLink2Description: Datasheet; ComponentLink2URL: http://ww1.microchip.com/downloads/en/DeviceDoc/70591e.pdf; ComponentLink3Description: Package Specification; ComponentLink3URL: http://www.microchip.com/stellent/groups/techpub_sg/documents/packagingspec/en012702.pdf; ComponentLink4Description: Product URL; ComponentLink4URL: http://www.microchip.com/dsPIC33FJ32GS610
footprint MCHP-TQFP-PT100_N (QFP, 100-Leads, Body 12x12mm, Pitch 0.4mm, IPC Medium Density)
footprint MCHP-TQFP-PT100_L (QFP, 100-Leads, Body 12x12mm, Pitch 0.4mm, IPC High Density)
footprint MCHP-TQFP-PT100_M (TQFP, 100-Leads, Body 12x12mm, Pitch 0.4mm, IPC Low Density)
part A pins: 1 SYNCI1/RG15 (io), 3 PWM3H/RE5 (io), 4 PWM4L/RE6 (io), 5 PWM4H/RE7 (io), 6 AN16/T2CK/RC1 (io), 7 AN17/T3CK/RC2 (io), 8 AN18/T4CK/RC3 (io), 9 AN19/T5CK/RC4 (io), 10 SCK2/FLT12/CN8/RG6 (io), 11 SDI2/FLT11/CN9/RG7 (io), 12 SDO2/FLT10/CN10/RG8 (io), 13 ~{MCLR} (in) "Master Clear (Reset) input. This pin is an active-low Reset to the device.", 14 ~{SS2}/FLT9/CN11/RG9 (io), 17 TMS/RA0 (io), 18 AN20/FLT13/INT1/RE8 (io), 19 AN21/FLT14/INT2/RE9 (io), 20 AN5/CMP3B/AQEB1/CN7/RB5 (io), 21 AN4/CMP2C/CMP3A/AQEA1/CN6/RB4 (io), 22 AN3/CMP2B/AINDX1/CN5/RB3 (io), 23 AN2/CMP1C/CMP2A/~{ASS1}/CN4/RB2 (io), 24 PGEC3/AN1/CMP1B/CN3/RB1 (io), 25 PGED3/AN0/CMP1A/CMP4C/CN2/RB0 (io), 26 PGEC1/AN6/CMP3C/CMP4A/OCFA/RB6 (io), 27 PGED1/AN7/CMP4B/RB7 (io), 28 PWM8L/RA9 (io), 29 PWM8H/RA10 (io), 32 AN8/RB8 (io), 33 AN9/DACOUT/RB9 (io), 34 AN10/RB10 (io), 35 AN11/EXTREF/RB11 (io), 38 TCK/RA1 (io), 39 ~{U2RTS}/RF13 (io), 40 ~{U2CTS}/RF12 (io), 41 AN12/CMP1D/RB12 (io), 42 AN13/CMP2D/RB13 (io), 43 AN14/CMP3D/~{SS1}/RB14 (io), 44 AN15/CMP4D/CN12/RB15 (io), 47 ~{U1CTS}/FLT15/SYNCI3/CN20/RD14 (io), 48 ~{U1RTS}/FLT16/SYNCI2/CN21/RD15 (io), 49 U2RX/FLT17/CN17/RF4 (io), 50 U2TX/FLT18/CN18/RF5 (io), 51 U1TX/RF3 (io), 52 U1RX/RF2 (io), 53 SDO1/RF8 (io), 54 SDI1/RF7 (io), 55 SCK1/INT0/RF6 (io), 56 SDA1/RG3 (io), 57 SCL1/RG2 (io), 58 SCL2/FLT22/RA2 (io), 59 SDA2/FLT21/RA3 (io), 60 TDI/RA4 (io), 61 TDO/RA5 (io), 63 OSC1/CLKIN/RC12 (io), 64 OSC2/REFCLKO/CLKO/RC15 (io), 66 INT3/FLT20/RA14 (io), 67 INT4/FLT19/SYNCI4/RA15 (io), 68 IC1/FLT1/RD8 (io), 69 IC2/FLT2/RD9 (io), 70 IC3/INDX1/FLT3/RD10 (io), 71 IC4/QEA1/FLT4/RD11 (io), 72 OC1/QEB1/FLT5/RD0 (io), 73 PGED2/SOSCI/CN1/RC13 (io), 74 PGEC2/SOSCO/T1CK/CN0/RC14 (io), 76 OC2/SYNCO2/FLT6/RD1 (io), 77 OC3/FLT7/RD2 (io), 78 PWM7H/OC4/FLT8/RD3 (io), 79 QEA2/RD12 (io), 80 PWM7L/CN19/RD13 (io), 81 PWM6L/CN13/RD4 (io), 82 PWM6H/CN14/RD5 (io), 83 PWM5L/CN15/RD6 (io), 84 PWM5H/UPDN1/CN16/RD7 (io), 85 VCAP "CPU logic filter capacitor connection.", 87 C1RX/RF0 (io), 88 C1TX/RF1 (io), 89 QEB2/RG1 (io), 90 INDX2/RG0 (io), 91 AN22/CN22/RA6 (io), 92 AN23/CN23/RA7 (io), 93 PWM1L/RE0 (io), 94 PWM1H/RE1 (io), 95 SYNCO1/FLT23/RG14 (io), 96 PWM9L/RG12 (io), 97 PWM9H/RG13 (io), 98 PWM2L/RE2 (io), 99 PWM2H/RE3 (io), 100 PWM3L/RE4 (io)
part B pins: 2 VDD (power) "Positive supply for peripheral logic and I/O pins.", 15 VSS (power) "Ground reference for logic and I/O pins.", 16 VDD (power) "Positive supply for peripheral logic and I/O pins.", 30 AVDD (power) "Positive supply for analog modules. This pin must be connected at all times.", 31 AVSS "Ground reference for analog modules.", 36 VSS "Ground reference for logic and I/O pins.", 37 VDD (power) "Positive supply for peripheral logic and I/O pins.", 45 VSS "Ground reference for logic and I/O pins.", 46 VDD (power) "Positive supply for peripheral logic and I/O pins.", 62 VDD (power) "Positive supply for peripheral logic and I/O pins.", 65 VSS "Ground reference for logic and I/O pins.", 75 VSS "Ground reference for logic and I/O pins.", 86 VDD (power) "Positive supply for peripheral logic and I/O pins."

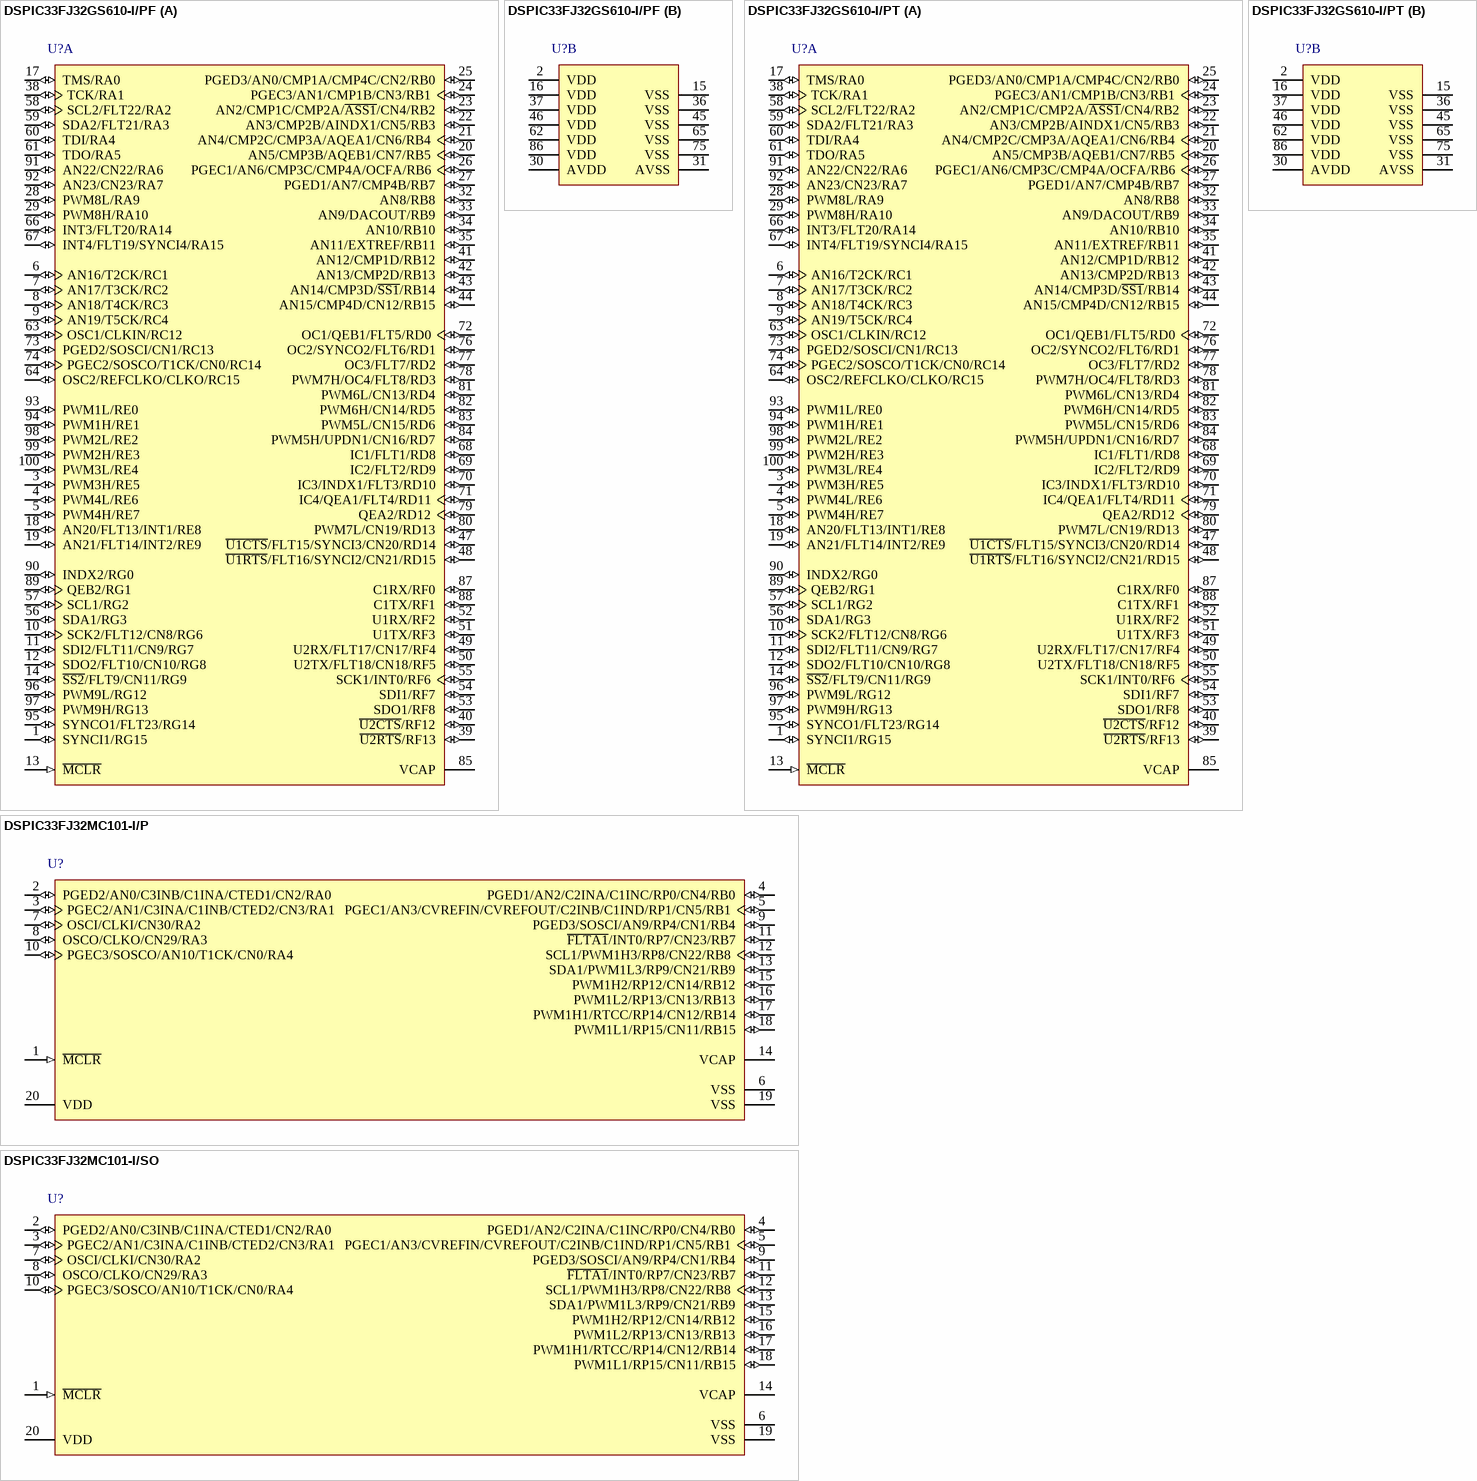
[diagram p37: symbols DSPIC33FJ32GS610-I/PF to DSPIC33FJ32MC101-I/SO]

## DSPIC33FJ32GS610-I/PF
designator U?
16-Bit Digital Signal Controller with High-Speed PWM, ADC and Comparators, 50 MIPS, 85 I/O, GPIO, -40 to 85 degC, 100-pin TQFP (PF100), Tray; Manufacturer: Microchip; PartNumber: DSPIC33FJ32GS610-I/PF; DatasheetVersion: Rev. E; PackageVersion: C04-110B; PackageReference: TQFP-PF100; PackageDescription: 100-Lead Thin Plastic Quad Flat Pack, 14 x 14 mm Body, 0.5 mm Pitch; Supplier 1: Digi-Key; Supplier Part Number 1: DSPIC33FJ32GS610-I/PF-ND; Supplier 2: Mouser; Supplier Part Number 2: 579-33FJ32GS610-I/PF; Mounting Technology: Surface Mount; ComponentLink1Description: Manufacturer URL; ComponentLink1URL: http://www.microchip.com; ComponentLink2Description: Datasheet; ComponentLink2URL: http://ww1.microchip.com/downloads/en/DeviceDoc/70591e.pdf; ComponentLink3Description: Package Specification; ComponentLink3URL: http://www.microchip.com/stellent/groups/techpub_sg/documents/packagingspec/en012702.pdf; ComponentLink4Description: Product URL; ComponentLink4URL: http://www.microchip.com/dsPIC33FJ32GS610
footprint MCHP-TQFP-PF100_N (QFP, 100-Leads, Body 14x14mm, Pitch 0.5mm, IPC Medium Density)
footprint MCHP-TQFP-PF100_L (QFP, 100-Leads, Body 14x14mm, Pitch 0.5mm, IPC High Density)
footprint MCHP-TQFP-PF100_M (QFP, 100-Leads, Body 14x14mm, Pitch 0.5mm, IPC Low Density)
part A pins: 1 SYNCI1/RG15 (io), 3 PWM3H/RE5 (io), 4 PWM4L/RE6 (io), 5 PWM4H/RE7 (io), 6 AN16/T2CK/RC1 (io), 7 AN17/T3CK/RC2 (io), 8 AN18/T4CK/RC3 (io), 9 AN19/T5CK/RC4 (io), 10 SCK2/FLT12/CN8/RG6 (io), 11 SDI2/FLT11/CN9/RG7 (io), 12 SDO2/FLT10/CN10/RG8 (io), 13 ~{MCLR} (in) "Master Clear (Reset) input. This pin is an active-low Reset to the device.", 14 ~{SS2}/FLT9/CN11/RG9 (io), 17 TMS/RA0 (io), 18 AN20/FLT13/INT1/RE8 (io), 19 AN21/FLT14/INT2/RE9 (io), 20 AN5/CMP3B/AQEB1/CN7/RB5 (io), 21 AN4/CMP2C/CMP3A/AQEA1/CN6/RB4 (io), 22 AN3/CMP2B/AINDX1/CN5/RB3 (io), 23 AN2/CMP1C/CMP2A/~{ASS1}/CN4/RB2 (io), 24 PGEC3/AN1/CMP1B/CN3/RB1 (io), 25 PGED3/AN0/CMP1A/CMP4C/CN2/RB0 (io), 26 PGEC1/AN6/CMP3C/CMP4A/OCFA/RB6 (io), 27 PGED1/AN7/CMP4B/RB7 (io), 28 PWM8L/RA9 (io), 29 PWM8H/RA10 (io), 32 AN8/RB8 (io), 33 AN9/DACOUT/RB9 (io), 34 AN10/RB10 (io), 35 AN11/EXTREF/RB11 (io), 38 TCK/RA1 (io), 39 ~{U2RTS}/RF13 (io), 40 ~{U2CTS}/RF12 (io), 41 AN12/CMP1D/RB12 (io), 42 AN13/CMP2D/RB13 (io), 43 AN14/CMP3D/~{SS1}/RB14 (io), 44 AN15/CMP4D/CN12/RB15 (io), 47 ~{U1CTS}/FLT15/SYNCI3/CN20/RD14 (io), 48 ~{U1RTS}/FLT16/SYNCI2/CN21/RD15 (io), 49 U2RX/FLT17/CN17/RF4 (io), 50 U2TX/FLT18/CN18/RF5 (io), 51 U1TX/RF3 (io), 52 U1RX/RF2 (io), 53 SDO1/RF8 (io), 54 SDI1/RF7 (io), 55 SCK1/INT0/RF6 (io), 56 SDA1/RG3 (io), 57 SCL1/RG2 (io), 58 SCL2/FLT22/RA2 (io), 59 SDA2/FLT21/RA3 (io), 60 TDI/RA4 (io), 61 TDO/RA5 (io), 63 OSC1/CLKIN/RC12 (io), 64 OSC2/REFCLKO/CLKO/RC15 (io), 66 INT3/FLT20/RA14 (io), 67 INT4/FLT19/SYNCI4/RA15 (io), 68 IC1/FLT1/RD8 (io), 69 IC2/FLT2/RD9 (io), 70 IC3/INDX1/FLT3/RD10 (io), 71 IC4/QEA1/FLT4/RD11 (io), 72 OC1/QEB1/FLT5/RD0 (io), 73 PGED2/SOSCI/CN1/RC13 (io), 74 PGEC2/SOSCO/T1CK/CN0/RC14 (io), 76 OC2/SYNCO2/FLT6/RD1 (io), 77 OC3/FLT7/RD2 (io), 78 PWM7H/OC4/FLT8/RD3 (io), 79 QEA2/RD12 (io), 80 PWM7L/CN19/RD13 (io), 81 PWM6L/CN13/RD4 (io), 82 PWM6H/CN14/RD5 (io), 83 PWM5L/CN15/RD6 (io), 84 PWM5H/UPDN1/CN16/RD7 (io), 85 VCAP "CPU logic filter capacitor connection.", 87 C1RX/RF0 (io), 88 C1TX/RF1 (io), 89 QEB2/RG1 (io), 90 INDX2/RG0 (io), 91 AN22/CN22/RA6 (io), 92 AN23/CN23/RA7 (io), 93 PWM1L/RE0 (io), 94 PWM1H/RE1 (io), 95 SYNCO1/FLT23/RG14 (io), 96 PWM9L/RG12 (io), 97 PWM9H/RG13 (io), 98 PWM2L/RE2 (io), 99 PWM2H/RE3 (io), 100 PWM3L/RE4 (io)
part B pins: 2 VDD (power) "Positive supply for peripheral logic and I/O pins.", 15 VSS (power) "Ground reference for logic and I/O pins.", 16 VDD (power) "Positive supply for peripheral logic and I/O pins.", 30 AVDD (power) "Positive supply for analog modules. This pin must be connected at all times.", 31 AVSS "Ground reference for analog modules.", 36 VSS "Ground reference for logic and I/O pins.", 37 VDD (power) "Positive supply for peripheral logic and I/O pins.", 45 VSS "Ground reference for logic and I/O pins.", 46 VDD (power) "Positive supply for peripheral logic and I/O pins.", 62 VDD (power) "Positive supply for peripheral logic and I/O pins.", 65 VSS "Ground reference for logic and I/O pins.", 75 VSS "Ground reference for logic and I/O pins.", 86 VDD (power) "Positive supply for peripheral logic and I/O pins."

## DSPIC33FJ32GS610-I/PT
designator U?
16-Bit Digital Signal Controller with High-Speed PWM, ADC and Comparators, 50 MIPS, 85 I/O, GPIO, -40 to 85 degC, 100-pin TQFP (PT100), Tray; Manufacturer: Microchip; PartNumber: DSPIC33FJ32GS610-I/PT; DatasheetVersion: Rev. E; PackageVersion: C04-100B; PackageReference: TQFP-PT100; PackageDescription: 100-Lead Plastic Thin Quad Flatpack, 12 x 12 mm Body, 0.4 mm Pitch; Supplier 1: Digi-Key; Supplier Part Number 1: DSPIC33FJ32GS610-I/PT-ND; Supplier 2: Farnell; Supplier Part Number 2: 1823202; Supplier 3: Farnell; Supplier Part Number 3: 1823202MPKG; Supplier 4: Newark; Supplier Part Number 4: 08R1545; Supplier 5: Mouser; Supplier Part Number 5: 579-33FJ32GS610-I/PT; Mounting Technology: Surface Mount; ComponentLink1Description: Manufacturer URL; ComponentLink1URL: http://www.microchip.com; ComponentLink2Description: Datasheet; ComponentLink2URL: http://ww1.microchip.com/downloads/en/DeviceDoc/70591e.pdf; ComponentLink3Description: Package Specification; ComponentLink3URL: http://www.microchip.com/stellent/groups/techpub_sg/documents/packagingspec/en012702.pdf; ComponentLink4Description: Product URL; ComponentLink4URL: http://www.microchip.com/dsPIC33FJ32GS610
footprint MCHP-TQFP-PT100_N (QFP, 100-Leads, Body 12x12mm, Pitch 0.4mm, IPC Medium Density)
footprint MCHP-TQFP-PT100_L (QFP, 100-Leads, Body 12x12mm, Pitch 0.4mm, IPC High Density)
footprint MCHP-TQFP-PT100_M (TQFP, 100-Leads, Body 12x12mm, Pitch 0.4mm, IPC Low Density)
part A pins: 1 SYNCI1/RG15 (io), 3 PWM3H/RE5 (io), 4 PWM4L/RE6 (io), 5 PWM4H/RE7 (io), 6 AN16/T2CK/RC1 (io), 7 AN17/T3CK/RC2 (io), 8 AN18/T4CK/RC3 (io), 9 AN19/T5CK/RC4 (io), 10 SCK2/FLT12/CN8/RG6 (io), 11 SDI2/FLT11/CN9/RG7 (io), 12 SDO2/FLT10/CN10/RG8 (io), 13 ~{MCLR} (in) "Master Clear (Reset) input. This pin is an active-low Reset to the device.", 14 ~{SS2}/FLT9/CN11/RG9 (io), 17 TMS/RA0 (io), 18 AN20/FLT13/INT1/RE8 (io), 19 AN21/FLT14/INT2/RE9 (io), 20 AN5/CMP3B/AQEB1/CN7/RB5 (io), 21 AN4/CMP2C/CMP3A/AQEA1/CN6/RB4 (io), 22 AN3/CMP2B/AINDX1/CN5/RB3 (io), 23 AN2/CMP1C/CMP2A/~{ASS1}/CN4/RB2 (io), 24 PGEC3/AN1/CMP1B/CN3/RB1 (io), 25 PGED3/AN0/CMP1A/CMP4C/CN2/RB0 (io), 26 PGEC1/AN6/CMP3C/CMP4A/OCFA/RB6 (io), 27 PGED1/AN7/CMP4B/RB7 (io), 28 PWM8L/RA9 (io), 29 PWM8H/RA10 (io), 32 AN8/RB8 (io), 33 AN9/DACOUT/RB9 (io), 34 AN10/RB10 (io), 35 AN11/EXTREF/RB11 (io), 38 TCK/RA1 (io), 39 ~{U2RTS}/RF13 (io), 40 ~{U2CTS}/RF12 (io), 41 AN12/CMP1D/RB12 (io), 42 AN13/CMP2D/RB13 (io), 43 AN14/CMP3D/~{SS1}/RB14 (io), 44 AN15/CMP4D/CN12/RB15 (io), 47 ~{U1CTS}/FLT15/SYNCI3/CN20/RD14 (io), 48 ~{U1RTS}/FLT16/SYNCI2/CN21/RD15 (io), 49 U2RX/FLT17/CN17/RF4 (io), 50 U2TX/FLT18/CN18/RF5 (io), 51 U1TX/RF3 (io), 52 U1RX/RF2 (io), 53 SDO1/RF8 (io), 54 SDI1/RF7 (io), 55 SCK1/INT0/RF6 (io), 56 SDA1/RG3 (io), 57 SCL1/RG2 (io), 58 SCL2/FLT22/RA2 (io), 59 SDA2/FLT21/RA3 (io), 60 TDI/RA4 (io), 61 TDO/RA5 (io), 63 OSC1/CLKIN/RC12 (io), 64 OSC2/REFCLKO/CLKO/RC15 (io), 66 INT3/FLT20/RA14 (io), 67 INT4/FLT19/SYNCI4/RA15 (io), 68 IC1/FLT1/RD8 (io), 69 IC2/FLT2/RD9 (io), 70 IC3/INDX1/FLT3/RD10 (io), 71 IC4/QEA1/FLT4/RD11 (io), 72 OC1/QEB1/FLT5/RD0 (io), 73 PGED2/SOSCI/CN1/RC13 (io), 74 PGEC2/SOSCO/T1CK/CN0/RC14 (io), 76 OC2/SYNCO2/FLT6/RD1 (io), 77 OC3/FLT7/RD2 (io), 78 PWM7H/OC4/FLT8/RD3 (io), 79 QEA2/RD12 (io), 80 PWM7L/CN19/RD13 (io), 81 PWM6L/CN13/RD4 (io), 82 PWM6H/CN14/RD5 (io), 83 PWM5L/CN15/RD6 (io), 84 PWM5H/UPDN1/CN16/RD7 (io), 85 VCAP "CPU logic filter capacitor connection.", 87 C1RX/RF0 (io), 88 C1TX/RF1 (io), 89 QEB2/RG1 (io), 90 INDX2/RG0 (io), 91 AN22/CN22/RA6 (io), 92 AN23/CN23/RA7 (io), 93 PWM1L/RE0 (io), 94 PWM1H/RE1 (io), 95 SYNCO1/FLT23/RG14 (io), 96 PWM9L/RG12 (io), 97 PWM9H/RG13 (io), 98 PWM2L/RE2 (io), 99 PWM2H/RE3 (io), 100 PWM3L/RE4 (io)
part B pins: 2 VDD (power) "Positive supply for peripheral logic and I/O pins.", 15 VSS (power) "Ground reference for logic and I/O pins.", 16 VDD (power) "Positive supply for peripheral logic and I/O pins.", 30 AVDD (power) "Positive supply for analog modules. This pin must be connected at all times.", 31 AVSS "Ground reference for analog modules.", 36 VSS "Ground reference for logic and I/O pins.", 37 VDD (power) "Positive supply for peripheral logic and I/O pins.", 45 VSS "Ground reference for logic and I/O pins.", 46 VDD (power) "Positive supply for peripheral logic and I/O pins.", 62 VDD (power) "Positive supply for peripheral logic and I/O pins.", 65 VSS "Ground reference for logic and I/O pins.", 75 VSS "Ground reference for logic and I/O pins.", 86 VDD (power) "Positive supply for peripheral logic and I/O pins."

## DSPIC33FJ32MC101-I/P
designator U?
16-Bit Digital Signal Controller, 16 MIPS, 15 I/O, GPIO, -40 to 85 degC, 20-pin PDIP (P20), Tube; Manufacturer: Microchip; PartNumber: DSPIC33FJ32MC101-I/P; DatasheetVersion: Rev. E; PackageVersion: C04-019B; PackageReference: PDIP-P20; PackageDescription: 20-Pin Plastic Dual In-Line, Row Spacing 7.62 mm, 25.91 x 6.6 mm Body, 2.54 mm Pitch; Supplier 1: Digi-Key; Supplier Part Number 1: DSPIC33FJ32MC101-I/P-ND; Supplier 2: Newark; Supplier Part Number 2: 26W9616; Supplier 3: Mouser; Supplier Part Number 3: 579-PIC33FJ32MC101IP; Mounting Technology: Through Hole; ComponentLink1Description: Manufacturer URL; ComponentLink1URL: http://www.microchip.com; ComponentLink2Description: Datasheet; ComponentLink2URL: http://ww1.microchip.com/downloads/en/DeviceDoc/70652e.pdf; ComponentLink3Description: Package Specification; ComponentLink3URL: http://www.microchip.com/stellent/groups/techpub_sg/documents/packagingspec/en012702.pdf; ComponentLink4Description: Product URL; ComponentLink4URL: http://www.microchip.com/dsPIC33FJ32MC101
footprint MCHP-PDIP-P20 (DIP, 20-Leads, Body 25.91x6.6mm, Pitch 2.54mm)
pins: 1 ~{MCLR} (in) "Master Clear (Reset) input. This pin is an active-low Reset to the device.", 2 PGED2/AN0/C3INB/C1INA/CTED1/CN2/RA0 (io), 3 PGEC2/AN1/C3INA/C1INB/CTED2/CN3/RA1 (io), 4 PGED1/AN2/C2INA/C1INC/RP0/CN4/RB0 (io), 5 PGEC1/AN3/CVREFIN/CVREFOUT/C2INB/C1IND/RP1/CN5/RB1 (io), 6 VSS (power) "Ground reference for logic and I/O pins.", 7 OSCI/CLKI/CN30/RA2 (io), 8 OSCO/CLKO/CN29/RA3 (io), 9 PGED3/SOSCI/AN9/RP4/CN1/RB4 (io), 10 PGEC3/SOSCO/AN10/T1CK/CN0/RA4 (io), 11 ~{FLTA1}/INT0/RP7/CN23/RB7 (io), 12 SCL1/PWM1H3/RP8/CN22/RB8 (io), 13 SDA1/PWM1L3/RP9/CN21/RB9 (io), 14 VCAP "CPU logic filter capacitor connection.", 15 PWM1H2/RP12/CN14/RB12 (io), 16 PWM1L2/RP13/CN13/RB13 (io), 17 PWM1H1/RTCC/RP14/CN12/RB14 (io), 18 PWM1L1/RP15/CN11/RB15 (io), 19 VSS (power) "Ground reference for logic and I/O pins.", 20 VDD (power) "Positive supply for peripheral logic and I/O pins."

## DSPIC33FJ32MC101-I/SO
designator U?
16-Bit Digital Signal Controller, 16 MIPS, 15 I/O, GPIO, -40 to 85 degC, 20-pin SOIC (SO20), Tube; Manufacturer: Microchip; PartNumber: DSPIC33FJ32MC101-I/SO; DatasheetVersion: Rev. E; PackageVersion: C04-094C; PackageReference: SOIC-SO20; PackageDescription: 20-Lead Plastic Small Outline, 7.5 x 12.8 mm Body, 1.27 mm Pitch; Supplier 1: Digi-Key; Supplier Part Number 1: DSPIC33FJ32MC101-I/SO-ND; Supplier 2: Newark; Supplier Part Number 2: 26W9617; Supplier 3: Mouser; Supplier Part Number 3: 579-PC33FJ32MC101ISO; Mounting Technology: Surface Mount; ComponentLink1Description: Manufacturer URL; ComponentLink1URL: http://www.microchip.com; ComponentLink2Description: Datasheet; ComponentLink2URL: http://ww1.microchip.com/downloads/en/DeviceDoc/70652e.pdf; ComponentLink3Description: Package Specification; ComponentLink3URL: http://www.microchip.com/stellent/groups/techpub_sg/documents/packagingspec/en012702.pdf; ComponentLink4Description: Product URL; ComponentLink4URL: http://www.microchip.com/dsPIC33FJ32MC101
footprint MCHP-SOIC-SO20_N (SOIC, 20-Leads, Body 12.8x7.5mm, Pitch 1.27mm, , IPC Medium Density)
footprint MCHP-SOIC-SO20_L (SOIC, 20-Leads, Body 12.8x7.5mm, Pitch 1.27mm, , IPC High Density)
footprint MCHP-SOIC-SO20_M (SOIC, 20-Leads, Body 12.8x7.5mm, Pitch 1.27mm, , IPC Low Density)
pins: 1 ~{MCLR} (in) "Master Clear (Reset) input. This pin is an active-low Reset to the device.", 2 PGED2/AN0/C3INB/C1INA/CTED1/CN2/RA0 (io), 3 PGEC2/AN1/C3INA/C1INB/CTED2/CN3/RA1 (io), 4 PGED1/AN2/C2INA/C1INC/RP0/CN4/RB0 (io), 5 PGEC1/AN3/CVREFIN/CVREFOUT/C2INB/C1IND/RP1/CN5/RB1 (io), 6 VSS (power) "Ground reference for logic and I/O pins.", 7 OSCI/CLKI/CN30/RA2 (io), 8 OSCO/CLKO/CN29/RA3 (io), 9 PGED3/SOSCI/AN9/RP4/CN1/RB4 (io), 10 PGEC3/SOSCO/AN10/T1CK/CN0/RA4 (io), 11 ~{FLTA1}/INT0/RP7/CN23/RB7 (io), 12 SCL1/PWM1H3/RP8/CN22/RB8 (io), 13 SDA1/PWM1L3/RP9/CN21/RB9 (io), 14 VCAP "CPU logic filter capacitor connection.", 15 PWM1H2/RP12/CN14/RB12 (io), 16 PWM1L2/RP13/CN13/RB13 (io), 17 PWM1H1/RTCC/RP14/CN12/RB14 (io), 18 PWM1L1/RP15/CN11/RB15 (io), 19 VSS (power) "Ground reference for logic and I/O pins.", 20 VDD (power) "Positive supply for peripheral logic and I/O pins."

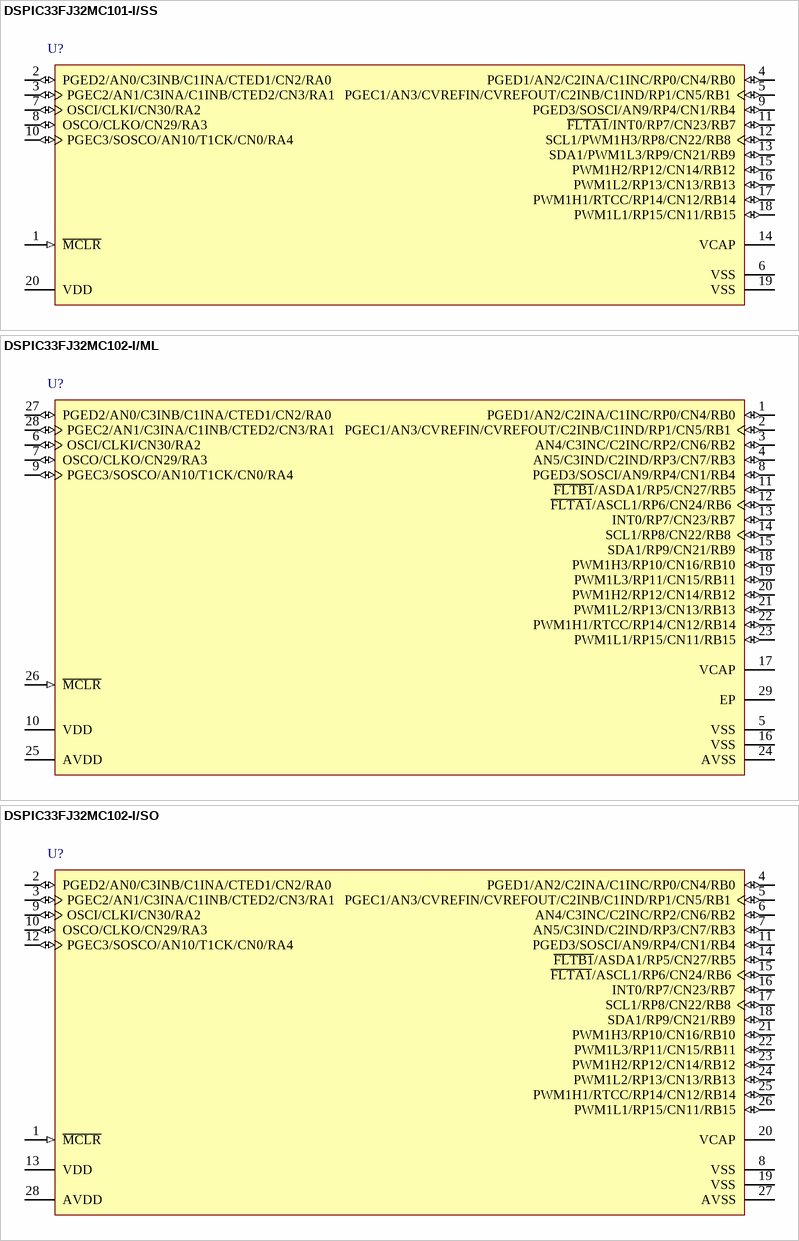
[diagram p38: symbols DSPIC33FJ32MC101-I/SS to DSPIC33FJ32MC102-I/SO]

## DSPIC33FJ32MC101-I/SS
designator U?
16-Bit Digital Signal Controller, 16 MIPS, 15 I/O, GPIO, -40 to 85 degC, 20-pin SSOP (SS20), Tube; Manufacturer: Microchip; PartNumber: DSPIC33FJ32MC101-I/SS; DatasheetVersion: Rev. E; PackageVersion: C04-072B; PackageReference: SSOP-SS20; PackageDescription: 20-Lead Plastic Shrink Small Outline, 5.3 x 7.2 mm Body, 0.65 mm Pitch; Supplier 1: Digi-Key; Supplier Part Number 1: DSPIC33FJ32MC101-I/SS-ND; Supplier 2: Newark; Supplier Part Number 2: 47W5723; Supplier 3: Mouser; Supplier Part Number 3: 579-PIC33FJ32MC101IS; Mounting Technology: Surface Mount; ComponentLink1Description: Manufacturer URL; ComponentLink1URL: http://www.microchip.com; ComponentLink2Description: Datasheet; ComponentLink2URL: http://ww1.microchip.com/downloads/en/DeviceDoc/70652e.pdf; ComponentLink3Description: Package Specification; ComponentLink3URL: http://www.microchip.com/stellent/groups/techpub_sg/documents/packagingspec/en012702.pdf; ComponentLink4Description: Product URL; ComponentLink4URL: http://www.microchip.com/dsPIC33FJ32MC101
footprint MCHP-SSOP-SS20_N (SOP, 20-Leads, Body 7.2x5.3mm, Pitch 0.65mm, IPC Medium Density)
footprint MCHP-SSOP-SS20_L (SOP, 20-Leads, Body 7.2x5.3mm, Pitch 0.65mm, IPC High Density)
footprint MCHP-SSOP-SS20_M (SOP, 20-Leads, Body 7.2x5.3mm, Pitch 0.65mm, IPC Low Density)
pins: 1 ~{MCLR} (in) "Master Clear (Reset) input. This pin is an active-low Reset to the device.", 2 PGED2/AN0/C3INB/C1INA/CTED1/CN2/RA0 (io), 3 PGEC2/AN1/C3INA/C1INB/CTED2/CN3/RA1 (io), 4 PGED1/AN2/C2INA/C1INC/RP0/CN4/RB0 (io), 5 PGEC1/AN3/CVREFIN/CVREFOUT/C2INB/C1IND/RP1/CN5/RB1 (io), 6 VSS (power) "Ground reference for logic and I/O pins.", 7 OSCI/CLKI/CN30/RA2 (io), 8 OSCO/CLKO/CN29/RA3 (io), 9 PGED3/SOSCI/AN9/RP4/CN1/RB4 (io), 10 PGEC3/SOSCO/AN10/T1CK/CN0/RA4 (io), 11 ~{FLTA1}/INT0/RP7/CN23/RB7 (io), 12 SCL1/PWM1H3/RP8/CN22/RB8 (io), 13 SDA1/PWM1L3/RP9/CN21/RB9 (io), 14 VCAP "CPU logic filter capacitor connection.", 15 PWM1H2/RP12/CN14/RB12 (io), 16 PWM1L2/RP13/CN13/RB13 (io), 17 PWM1H1/RTCC/RP14/CN12/RB14 (io), 18 PWM1L1/RP15/CN11/RB15 (io), 19 VSS (power) "Ground reference for logic and I/O pins.", 20 VDD (power) "Positive supply for peripheral logic and I/O pins."

## DSPIC33FJ32MC102-I/ML
designator U?
16-Bit Digital Signal Controller, 16 MIPS, 21 I/O, GPIO, -40 to 85 degC, 28-pin QFN (ML28), Tube; Manufacturer: Microchip; PartNumber: DSPIC33FJ32MC102-I/ML; DatasheetVersion: Rev. E; PackageVersion: C04-105C; PackageReference: QFN-ML28; PackageDescription: 28-Lead Plastic Quad Flat, 6 x 6 mm Body, 0.65 mm Pitch; Supplier 1: Digi-Key; Supplier Part Number 1: DSPIC33FJ32MC102-I/ML-ND; Supplier 2: Newark; Supplier Part Number 2: 26W9629; Supplier 3: Mouser; Supplier Part Number 3: 579-PC33FJ32MC102IML; Mounting Technology: Surface Mount; ComponentLink1Description: Manufacturer URL; ComponentLink1URL: http://www.microchip.com; ComponentLink2Description: Datasheet; ComponentLink2URL: http://ww1.microchip.com/downloads/en/DeviceDoc/70652e.pdf; ComponentLink3Description: Package Specification; ComponentLink3URL: http://www.microchip.com/stellent/groups/techpub_sg/documents/packagingspec/en012702.pdf; ComponentLink4Description: Product URL; ComponentLink4URL: http://www.microchip.com/dsPIC33FJ32MC102
footprint MCHP-QFN-ML28_N (QFN, 28-Leads, Body 6x6mm, Pitch 0.65mm, Thermal Pad 3.7x3.7mm, IPC Medium Density)
footprint MCHP-QFN-ML28_L (QFN, 28-Leads, Body 6x6mm, Pitch 0.65mm, Thermal Pad 3.7x3.7mm, IPC High Density)
footprint MCHP-QFN-ML28_M (QFN, 28-Leads, Body 6x6mm, Pitch 0.65mm, Thermal Pad 3.7x3.7mm, IPC Low Density)
pins: 1 PGED1/AN2/C2INA/C1INC/RP0/CN4/RB0 (io), 2 PGEC1/AN3/CVREFIN/CVREFOUT/C2INB/C1IND/RP1/CN5/RB1 (io), 3 AN4/C3INC/C2INC/RP2/CN6/RB2 (io), 4 AN5/C3IND/C2IND/RP3/CN7/RB3 (io), 5 VSS (power) "Ground reference for logic and I/O pins.", 6 OSCI/CLKI/CN30/RA2 (io), 7 OSCO/CLKO/CN29/RA3 (io), 8 PGED3/SOSCI/AN9/RP4/CN1/RB4 (io), 9 PGEC3/SOSCO/AN10/T1CK/CN0/RA4 (io), 10 VDD (power) "Positive supply for peripheral logic and I/O pins.", 11 ~{FLTB1}/ASDA1/RP5/CN27/RB5 (io), 12 ~{FLTA1}/ASCL1/RP6/CN24/RB6 (io), 13 INT0/RP7/CN23/RB7 (io), 14 SCL1/RP8/CN22/RB8 (io), 15 SDA1/RP9/CN21/RB9 (io), 16 VSS (power) "Ground reference for logic and I/O pins.", 17 VCAP "CPU logic filter capacitor connection.", 18 PWM1H3/RP10/CN16/RB10 (io), 19 PWM1L3/RP11/CN15/RB11 (io), 20 PWM1H2/RP12/CN14/RB12 (io), 21 PWM1L2/RP13/CN13/RB13 (io), 22 PWM1H1/RTCC/RP14/CN12/RB14 (io), 23 PWM1L1/RP15/CN11/RB15 (io), 24 AVSS (power) "Ground reference for analog modules. AVSS is connected to VSS in the 18-pin dsPIC33FJXXGP101 and 20-pin dsPIC33FJXXMC101 devices. In all other devices, AVSS is separated from VSS.", 25 AVDD (power) "Positive supply for analog modules. This pin must be connected at all times. AVDD is connected to VDD in the 18-pin dsPIC33FJXXGP101 and 20-pin dsPIC33FJXXMC101 devices. In all other devices, AVDD is separated from VDD.", 26 ~{MCLR} (in) "Master Clear (Reset) input. This pin is an active-low Reset to the device.", 27 PGED2/AN0/C3INB/C1INA/CTED1/CN2/RA0 (io), 28 PGEC2/AN1/C3INA/C1INB/CTED2/CN3/RA1 (io), 29 EP (power) "The metal pad at the bottom of the device is not connected to any pins and is recommended to be connected to VSS externally"

## DSPIC33FJ32MC102-I/SO
designator U?
16-Bit Digital Signal Controller, 16 MIPS, 21 I/O, GPIO, -40 to 85 degC, 28-pin SOIC (SO28), Tube; Manufacturer: Microchip; PartNumber: DSPIC33FJ32MC102-I/SO; DatasheetVersion: Rev. E; PackageVersion: C04-052C; PackageReference: SOIC-SO28; PackageDescription: 28-Lead Plastic Small Outline, 17.9 x 7.5 mm Body, 1.27 mm Pitch; Supplier 1: Digi-Key; Supplier Part Number 1: DSPIC33FJ32MC102-I/SO-ND; Supplier 2: Farnell; Supplier Part Number 2: 2290225; Supplier 3: Newark; Supplier Part Number 3: 26W9630; Supplier 4: Mouser; Supplier Part Number 4: 579-PC33FJ32MC102ISO; Mounting Technology: Surface Mount; ComponentLink1Description: Manufacturer URL; ComponentLink1URL: http://www.microchip.com; ComponentLink2Description: Datasheet; ComponentLink2URL: http://ww1.microchip.com/downloads/en/DeviceDoc/70652e.pdf; ComponentLink3Description: Package Specification; ComponentLink3URL: http://www.microchip.com/stellent/groups/techpub_sg/documents/packagingspec/en012702.pdf; ComponentLink4Description: Product URL; ComponentLink4URL: http://www.microchip.com/dsPIC33FJ32MC102
footprint MCHP-SOIC-SO28_N (SOIC, 28-Leads, Body 17.9x7.5mm, Pitch 1.27mm, IPC Medium Density)
footprint MCHP-SOIC-SO28_L (SOIC, 28-Leads, Body 17.9x7.5mm, Pitch 1.27mm, IPC High Density)
footprint MCHP-SOIC-SO28_M (SOIC, 28-Leads, Body 17.9x7.5mm, Pitch 1.27mm, IPC Low Density)
pins: 1 ~{MCLR} (in) "Master Clear (Reset) input. This pin is an active-low Reset to the device.", 2 PGED2/AN0/C3INB/C1INA/CTED1/CN2/RA0 (io), 3 PGEC2/AN1/C3INA/C1INB/CTED2/CN3/RA1 (io), 4 PGED1/AN2/C2INA/C1INC/RP0/CN4/RB0 (io), 5 PGEC1/AN3/CVREFIN/CVREFOUT/C2INB/C1IND/RP1/CN5/RB1 (io), 6 AN4/C3INC/C2INC/RP2/CN6/RB2 (io), 7 AN5/C3IND/C2IND/RP3/CN7/RB3 (io), 8 VSS (power) "Ground reference for logic and I/O pins.", 9 OSCI/CLKI/CN30/RA2 (io), 10 OSCO/CLKO/CN29/RA3 (io), 11 PGED3/SOSCI/AN9/RP4/CN1/RB4 (io), 12 PGEC3/SOSCO/AN10/T1CK/CN0/RA4 (io), 13 VDD (power) "Positive supply for peripheral logic and I/O pins.", 14 ~{FLTB1}/ASDA1/RP5/CN27/RB5 (io), 15 ~{FLTA1}/ASCL1/RP6/CN24/RB6 (io), 16 INT0/RP7/CN23/RB7 (io), 17 SCL1/RP8/CN22/RB8 (io), 18 SDA1/RP9/CN21/RB9 (io), 19 VSS (power) "Ground reference for logic and I/O pins.", 20 VCAP "CPU logic filter capacitor connection.", 21 PWM1H3/RP10/CN16/RB10 (io), 22 PWM1L3/RP11/CN15/RB11 (io), 23 PWM1H2/RP12/CN14/RB12 (io), 24 PWM1L2/RP13/CN13/RB13 (io), 25 PWM1H1/RTCC/RP14/CN12/RB14 (io), 26 PWM1L1/RP15/CN11/RB15 (io), 27 AVSS (power) "Ground reference for analog modules. AVSS is connected to VSS in the 18-pin dsPIC33FJXXGP101, 20-pin dsPIC33FJXXMC101 devices and 28-pin PIC24FJXXMC102 devices. In all other devices, AVSS is separated from VSS.", 28 AVDD (power) "Positive supply for analog modules. This pin must be connected at all times.AVDD is connected to VDD in the 18-pin dsPIC33FJXXGP101, 20-pin dsPIC33FJXXMC101 devices and 28-pin PIC24FJXXMC102 deveices. In all other devices, AVDD is separated from VDD."

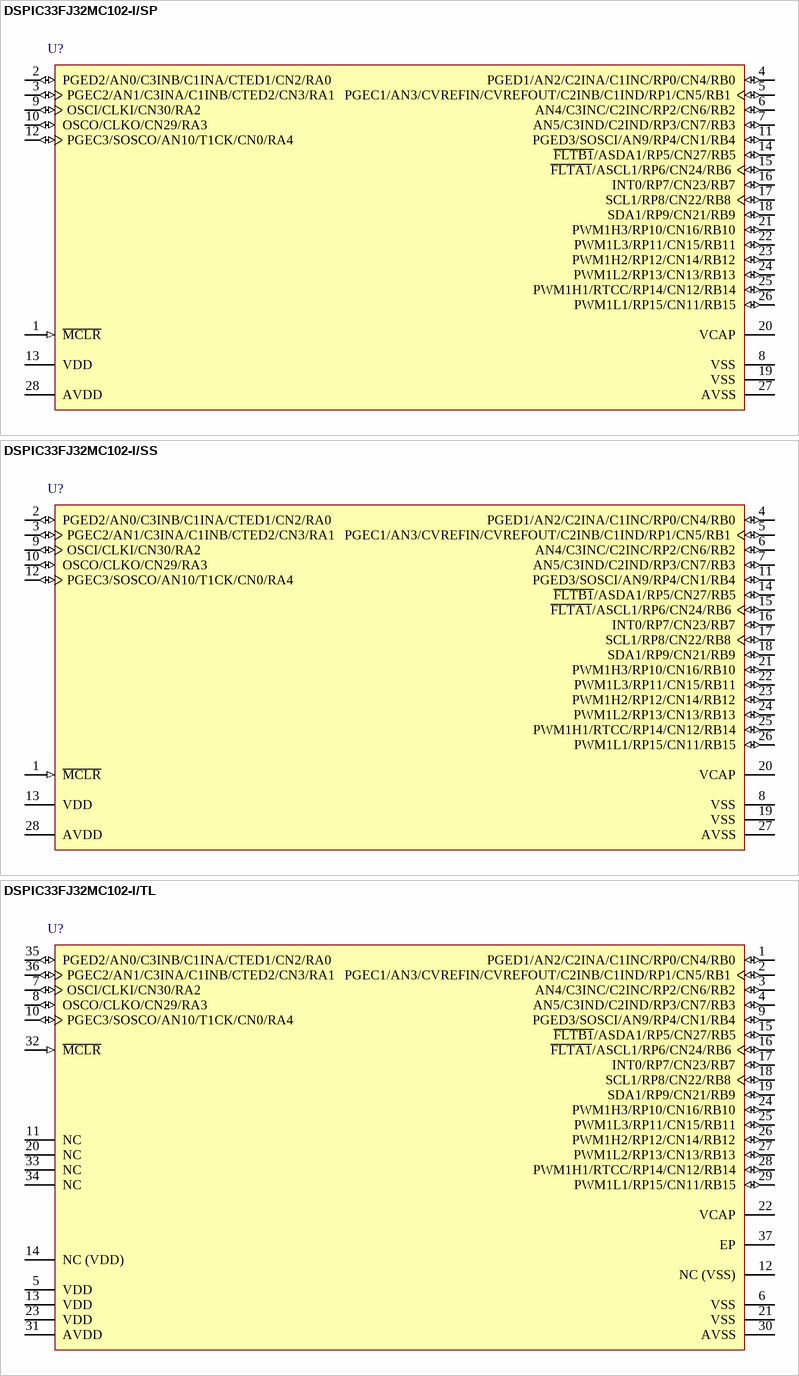
[diagram p39: symbols DSPIC33FJ32MC102-I/SP to DSPIC33FJ32MC102-I/TL]

## DSPIC33FJ32MC102-I/SP
designator U?
16-Bit Digital Signal Controller, 16 MIPS, 21 I/O, GPIO, -40 to 85 degC, 28-pin SPDIP (SP28), Tube; Manufacturer: Microchip; PartNumber: DSPIC33FJ32MC102-I/SP; DatasheetVersion: Rev. E; PackageVersion: C04-070B; PackageReference: SPDIP-SP28; PackageDescription: 28-Lead Plastic Dual In-Line, 34.86 x 6.79 mm Body, 2.54 mm Pitch; Supplier 1: Digi-Key; Supplier Part Number 1: DSPIC33FJ32MC102-I/SP-ND; Supplier 2: Newark; Supplier Part Number 2: 26W9631; Supplier 3: Mouser; Supplier Part Number 3: 579-PC33FJ32MC102ISP; Mounting Technology: Through Hole; ComponentLink1Description: Manufacturer URL; ComponentLink1URL: http://www.microchip.com; ComponentLink2Description: Datasheet; ComponentLink2URL: http://ww1.microchip.com/downloads/en/DeviceDoc/70652e.pdf; ComponentLink3Description: Package Specification; ComponentLink3URL: http://www.microchip.com/stellent/groups/techpub_sg/documents/packagingspec/en012702.pdf; ComponentLink4Description: Product URL; ComponentLink4URL: http://www.microchip.com/dsPIC33FJ32MC102
footprint MCHP-SPDIP-SP28 (DIP, 28-Leads, Body 34.86x6.79mm, Pitch 2.54mm)
pins: 1 ~{MCLR} (in) "Master Clear (Reset) input. This pin is an active-low Reset to the device.", 2 PGED2/AN0/C3INB/C1INA/CTED1/CN2/RA0 (io), 3 PGEC2/AN1/C3INA/C1INB/CTED2/CN3/RA1 (io), 4 PGED1/AN2/C2INA/C1INC/RP0/CN4/RB0 (io), 5 PGEC1/AN3/CVREFIN/CVREFOUT/C2INB/C1IND/RP1/CN5/RB1 (io), 6 AN4/C3INC/C2INC/RP2/CN6/RB2 (io), 7 AN5/C3IND/C2IND/RP3/CN7/RB3 (io), 8 VSS (power) "Ground reference for logic and I/O pins.", 9 OSCI/CLKI/CN30/RA2 (io), 10 OSCO/CLKO/CN29/RA3 (io), 11 PGED3/SOSCI/AN9/RP4/CN1/RB4 (io), 12 PGEC3/SOSCO/AN10/T1CK/CN0/RA4 (io), 13 VDD (power) "Positive supply for peripheral logic and I/O pins.", 14 ~{FLTB1}/ASDA1/RP5/CN27/RB5 (io), 15 ~{FLTA1}/ASCL1/RP6/CN24/RB6 (io), 16 INT0/RP7/CN23/RB7 (io), 17 SCL1/RP8/CN22/RB8 (io), 18 SDA1/RP9/CN21/RB9 (io), 19 VSS (power) "Ground reference for logic and I/O pins.", 20 VCAP "CPU logic filter capacitor connection.", 21 PWM1H3/RP10/CN16/RB10 (io), 22 PWM1L3/RP11/CN15/RB11 (io), 23 PWM1H2/RP12/CN14/RB12 (io), 24 PWM1L2/RP13/CN13/RB13 (io), 25 PWM1H1/RTCC/RP14/CN12/RB14 (io), 26 PWM1L1/RP15/CN11/RB15 (io), 27 AVSS (power) "Ground reference for analog modules. AVSS is connected to VSS in the 18-pin dsPIC33FJXXGP101, 20-pin dsPIC33FJXXMC101 devices and 28-pin PIC24FJXXMC102 devices. In all other devices, AVSS is separated from VSS.", 28 AVDD (power) "Positive supply for analog modules. This pin must be connected at all times.AVDD is connected to VDD in the 18-pin dsPIC33FJXXGP101, 20-pin dsPIC33FJXXMC101 devices and 28-pin PIC24FJXXMC102 deveices. In all other devices, AVDD is separated from VDD."